# Altium footprint library CustomParts.PcbLib: 4 footprints
Each footprint in its own frame and in the unit in brackets; x right, y up, seen from the top. Pads: shape width x height; smd on the part's side, far side on the other; paste and mask are expansions set on the pad; w line width, h text height; cw(c..) or ccw(c..) is an arc to the next point about the centre after c.
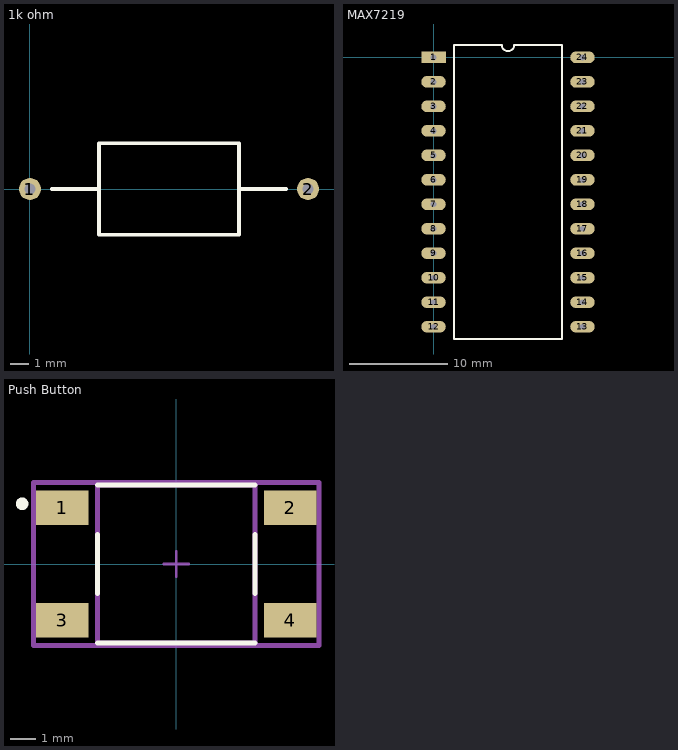
[diagram p0: the footprints below, top view; thin cyan lines are the x and y axes]

## 1k ohm [mm]
pads (2):
  round 1.2 hole 0.6: 1(0,0) 2(15.2,0)
Top Overlay:
  lines w0.2: 1.2,0 3.775,0 ; 11.425,0 14,0 ; 3.775,0 3.775,2.5 11.425,2.5 11.425,-2.5 3.775,-2.5 3.775,0

## MAX7219 [mm]
pads (24):
  rect 2.5x1.2 hole 0.6: 1(0,0)
  oval 2.5x1.2 hole 0.6: 2(0,-2.5) 3(0,-5) 4(0,-7.5) 5(0,-10) 6(0,-12.5) 7(0,-15) 8(0,-17.5) 9(0,-20) 10(0,-22.5) 11(0,-25) 12(0,-27.5) 13(15.2,-27.5) 14(15.2,-25) 15(15.2,-22.5) 16(15.2,-20) 17(15.2,-17.5) 18(15.2,-15) 19(15.2,-12.5) 20(15.2,-10) 21(15.2,-7.5) 22(15.2,-5) 23(15.2,-2.5) 24(15.2,0)
Top Overlay:
  lines w0.2: 2.085,-28.75 2.085,1.25 6.975,1.25 ccw(c7.6,1.25) 8.225,1.25 13.115,1.25 13.115,-28.75 2.085,-28.75

## PCBComponent_1 [mm]

## Push Button [mm]
pads (4):
  rect 2.1x1.38 smd paste+0 mask+0: 1(-4.55,2.24) 2(4.55,2.24) 3(-4.55,-2.24) 4(4.55,-2.24)
Top Overlay:
  circle w0.25: c-6.15,2.404 r0.125
  lines w0.2: -3.15,-3.15 3.15,-3.15 ; -3.15,-1.175 -3.15,1.175 ; -3.15,3.15 3.15,3.15 ; 3.15,-1.175 3.15,1.175
Top Assembly:
  lines w0.2: -5.7,-3.25 -5.7,3.25 5.7,3.25 5.7,-3.25 -5.7,-3.25
  text ".Designator" at 0,-0.001 h1
Top 3D Body:
  lines w0.2: -3.15,-3.15 -3.15,3.15 3.15,3.15 3.15,-3.15 -3.15,-3.15
Top Courtyard:
  lines w0.2: -5.7,-3.25 -5.7,3.25 5.7,3.25 5.7,-3.25 -5.7,-3.25
Top Component Center:
  lines w0.1: -0.5,0 0.5,0 ; 0,-0.5 0,0.5